# EAGLE library part 520250-3 (library con-amp2)
AMP connector
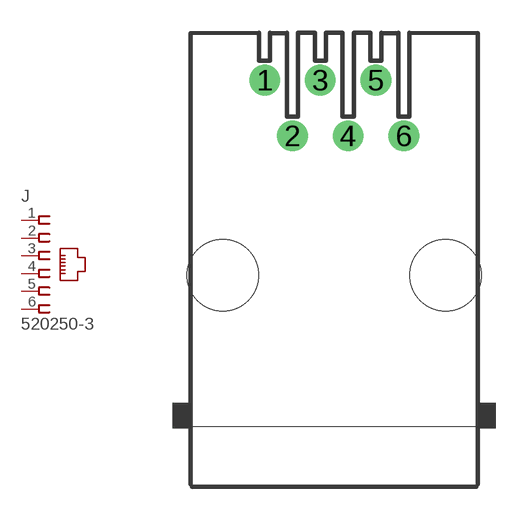
[diagram p49: symbol with the pads of 520250-3; footprint 520250-3]

Designator prefix J

## 520250-3  [520250-3]
1  1  pas
2  2  pas
3  3  pas
4  4  pas
5  5  pas
6  6  pas

## Footprint 520250-3 (pad centres in mm)
Modular Jack with Panel Stops
drill 0.889 round: 1 -3.175,8.89; 2 -1.905,6.35; 3 -0.635,8.89; 4 0.635,6.35; 5 1.905,8.89; 6 3.175,6.35
hole 3.251 at -5.08,0
hole 3.251 at 5.08,0